# EAGLE library part ADV212 (library sjg-adv)
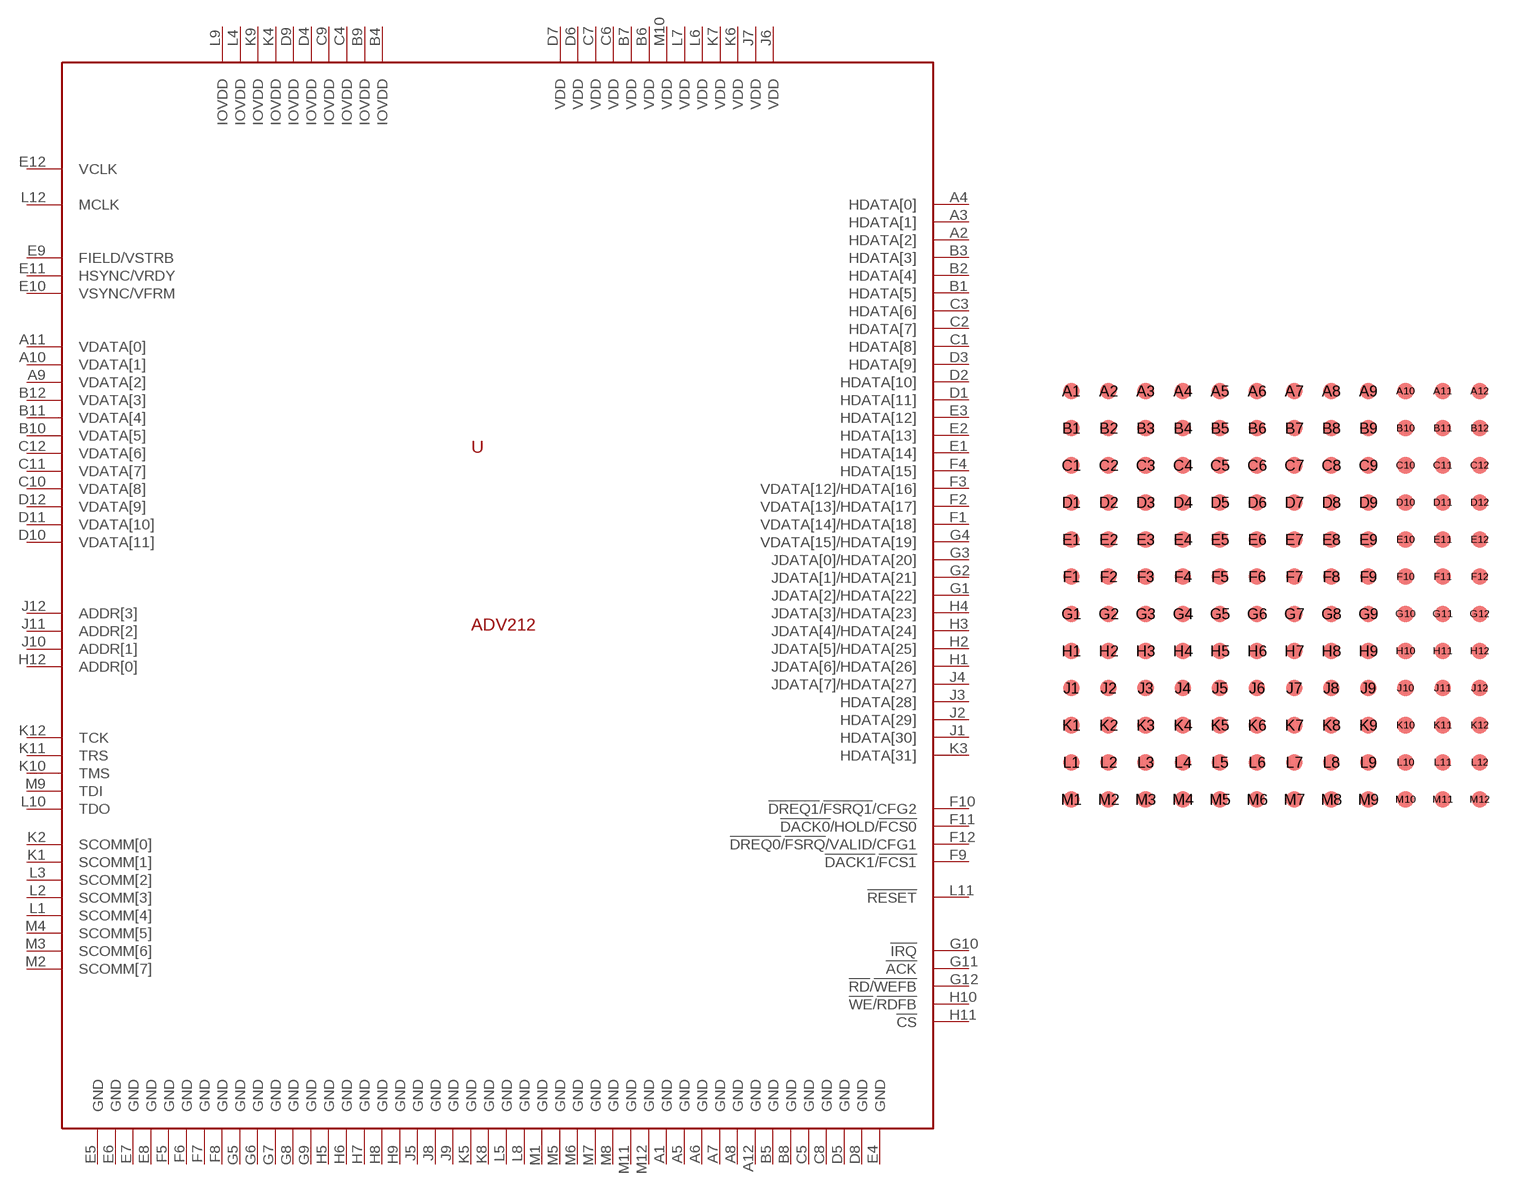
[diagram p0: symbol with the pads of BGA144; footprint BGA144]

Designator prefix -

## ADV212  [BGA144]
A1  GND
A2  HDATA[2]
A3  HDATA[1]
A4  HDATA[0]
A5  GND
A6  GND
A7  GND
A8  GND
A9  VDATA[2]
A10  VDATA[1]
A11  VDATA[0]
A12  GND
B1  HDATA[5]
B2  HDATA[4]
B3  HDATA[3]
B4  IOVDD
B5  GND
B6  VDD
B7  VDD
B8  GND
B9  IOVDD
B10  VDATA[5]
B11  VDATA[4]
B12  VDATA[3]
C1  HDATA[8]
C2  HDATA[7]
C3  HDATA[6]
C4  IOVDD
C5  GND
C6  VDD
C7  VDD
C8  GND
C9  IOVDD
C10  VDATA[8]
C11  VDATA[7]
C12  VDATA[6]
D1  HDATA[11]
D2  HDATA[10]
D3  HDATA[9]
D4  IOVDD
D5  GND
D6  VDD
D7  VDD
D8  GND
D9  IOVDD
D10  VDATA[11]
D11  VDATA[10]
D12  VDATA[9]
E1  HDATA[14]
E2  HDATA[13]
E3  HDATA[12]
E4  GND
E5  GND
E6  GND
E7  GND
E8  GND
E9  FIELD/VSTRB
E10  VSYNC/VFRM
E11  HSYNC/VRDY
E12  VCLK
F1  VDATA[14]/HDATA[18]
F2  VDATA[13]/HDATA[17]
F3  VDATA[12]/HDATA[16]
F4  HDATA[15]
F5  GND
F6  GND
F7  GND
F8  GND
F9  !DACK1!/!FCS1!
F10  !DREQ1!/!FSRQ1!/CFG2
F11  !DACK0!/HOLD/!FCS0!
F12  !DREQ0!/!FSRQ!/VALID/CFG1
G1  JDATA[2]/HDATA[22]
G2  JDATA[1]/HDATA[21]
G3  JDATA[0]/HDATA[20]
G4  VDATA[15]/HDATA[19]
G5  GND
G6  GND
G7  GND
G8  GND
G9  GND
G10  !IRQ!
G11  !ACK!
G12  !RD!/!WEFB!
H1  JDATA[6]/HDATA[26]
H2  JDATA[5]/HDATA[25]
H3  JDATA[4]/HDATA[24]
H4  JDATA[3]/HDATA[23]
H5  GND
H6  GND
H7  GND
H8  GND
H9  GND
H10  !WE!/!RDFB!
H11  !CS!
H12  ADDR[0]
J1  HDATA[30]
J2  HDATA[29]
J3  HDATA[28]
J4  JDATA[7]/HDATA[27]
J5  GND
J6  VDD
J7  VDD
J8  GND
J9  GND
J10  ADDR[1]
J11  ADDR[2]
J12  ADDR[3]
K1  SCOMM[1]
K2  SCOMM[0]
K3  HDATA[31]
K4  IOVDD
K5  GND
K6  VDD
K7  VDD
K8  GND
K9  IOVDD
K10  TMS
K11  TRS
K12  TCK
L1  SCOMM[4]
L2  SCOMM[3]
L3  SCOMM[2]
L4  IOVDD
L5  GND
L6  VDD
L7  VDD
L8  GND
L9  IOVDD
L10  TDO
L11  !RESET!
L12  MCLK
M1  GND
M2  SCOMM[7]
M3  SCOMM[6]
M4  SCOMM[5]
M5  GND
M6  GND
M7  GND
M8  GND
M9  TDI
M10  VDD
M11  GND
M12  GND

## Footprint BGA144 (pad centres in mm)
smd 0.45 x 0.45: A1 -5.5,5.5; A2 -4.5,5.5; A3 -3.5,5.5; A4 -2.5,5.5; A5 -1.5,5.5; A6 -0.5,5.5; A7 0.5,5.5; A8 1.5,5.5; A9 2.5,5.5; A10 3.5,5.5; A11 4.5,5.5; A12 5.5,5.5; B1 -5.5,4.5; B2 -4.5,4.5; B3 -3.5,4.5; B4 -2.5,4.5; B5 -1.5,4.5; B6 -0.5,4.5; B7 0.5,4.5; B8 1.5,4.5; B9 2.5,4.5; B10 3.5,4.5; B11 4.5,4.5; B12 5.5,4.5; C1 -5.5,3.5; C2 -4.5,3.5; C3 -3.5,3.5; C4 -2.5,3.5; C5 -1.5,3.5; C6 -0.5,3.5; C7 0.5,3.5; C8 1.5,3.5; C9 2.5,3.5; C10 3.5,3.5; C11 4.5,3.5; C12 5.5,3.5; D1 -5.5,2.5; D2 -4.5,2.5; D3 -3.5,2.5; D4 -2.5,2.5; D5 -1.5,2.5; D6 -0.5,2.5; D7 0.5,2.5; D8 1.5,2.5; D9 2.5,2.5; D10 3.5,2.5; D11 4.5,2.5; D12 5.5,2.5; E1 -5.5,1.5; E2 -4.5,1.5; E3 -3.5,1.5; E4 -2.5,1.5; E5 -1.5,1.5; E6 -0.5,1.5; E7 0.5,1.5; E8 1.5,1.5; E9 2.5,1.5; E10 3.5,1.5; E11 4.5,1.5; E12 5.5,1.5; F1 -5.5,0.5; F2 -4.5,0.5; F3 -3.5,0.5; F4 -2.5,0.5; F5 -1.5,0.5; F6 -0.5,0.5; F7 0.5,0.5; F8 1.5,0.5; F9 2.5,0.5; F10 3.5,0.5; F11 4.5,0.5; F12 5.5,0.5; G1 -5.5,-0.5; G2 -4.5,-0.5; G3 -3.5,-0.5; G4 -2.5,-0.5; G5 -1.5,-0.5; G6 -0.5,-0.5; G7 0.5,-0.5; G8 1.5,-0.5; G9 2.5,-0.5; G10 3.5,-0.5; G11 4.5,-0.5; G12 5.5,-0.5; H1 -5.5,-1.5; H2 -4.5,-1.5; H3 -3.5,-1.5; H4 -2.5,-1.5; H5 -1.5,-1.5; H6 -0.5,-1.5; H7 0.5,-1.5; H8 1.5,-1.5; H9 2.5,-1.5; H10 3.5,-1.5; H11 4.5,-1.5; H12 5.5,-1.5; J1 -5.5,-2.5; J2 -4.5,-2.5; J3 -3.5,-2.5; J4 -2.5,-2.5; J5 -1.5,-2.5; J6 -0.5,-2.5; J7 0.5,-2.5; J8 1.5,-2.5; J9 2.5,-2.5; J10 3.5,-2.5; J11 4.5,-2.5; J12 5.5,-2.5; K1 -5.5,-3.5; K2 -4.5,-3.5; K3 -3.5,-3.5; K4 -2.5,-3.5; K5 -1.5,-3.5; K6 -0.5,-3.5; K7 0.5,-3.5; K8 1.5,-3.5; K9 2.5,-3.5; K10 3.5,-3.5; K11 4.5,-3.5; K12 5.5,-3.5; L1 -5.5,-4.5; L2 -4.5,-4.5; L3 -3.5,-4.5; L4 -2.5,-4.5; L5 -1.5,-4.5; L6 -0.5,-4.5; L7 0.5,-4.5; L8 1.5,-4.5; L9 2.5,-4.5; L10 3.5,-4.5; L11 4.5,-4.5; L12 5.5,-4.5; M1 -5.5,-5.5; M2 -4.5,-5.5; M3 -3.5,-5.5; M4 -2.5,-5.5; M5 -1.5,-5.5; M6 -0.5,-5.5; M7 0.5,-5.5; M8 1.5,-5.5; M9 2.5,-5.5; M10 3.5,-5.5; M11 4.5,-5.5; M12 5.5,-5.5